# EAGLE library part BMA180 (library pixhawk2)
BOSCH BMA180 Accelerometer High-resolution sensor from Bosch Sensortec, featuring 14 bit resolution. Datasheet Link <http://www.google.ch/url?sa=t&rct=j&q=bma180&source=web&cd=1&ved=0CB0QFjAA&url=http%3A%2F%2Fwww.bosch-sensortec.com%2Fcontent%2Flanguage1%2Fdownloads%2FBST-BMA180-FL000-03.pdf&ei=pwWtTsCPLYGIhQedisnvDw&usg=AFQjCNFhPrGTrqbWNeRaOdpmwdQXBTwpZQ&cad=rja>
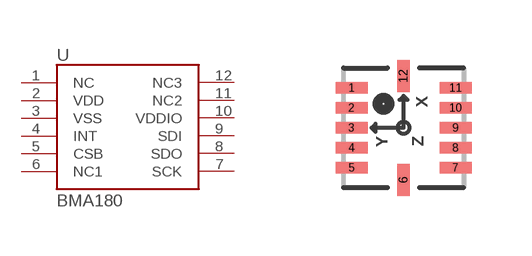
[diagram p42: symbol with the pads of LGA12; footprint LGA12]

Designator prefix -

## BMA180  [LGA12]
1  NC
2  VDD
3  VSS
4  INT
5  CSB
6  NC1
7  SCK
8  SDO
9  SDI
10  VDDIO
11  NC2
12  NC3

## Footprint LGA12 (pad centres in mm)
smd 0.8 x 0.29: 1 -1.3,1; 2 -1.3,0.5; 3 -1.3,0; 4 -1.3,-0.5; 5 -1.3,-1; 7 1.3,-1; 8 1.3,-0.5; 9 1.3,0; 10 1.3,0.5; 11 1.3,1
smd 0.32 x 0.8: 6 0,-1.3; 12 0,1.3